# Altium footprint library Pin, SPND-001T-C0.5.PcbLib: 1 footprints
Each footprint in its own frame and in the unit in brackets; x right, y up, seen from the top. Pads: shape width x height; smd on the part's side, far side on the other; paste and mask are expansions set on the pad; w line width, h text height; cw(c..) or ccw(c..) is an arc to the next point about the centre after c.

## Pin, SPND-001T-C0.5 [mm] "Pin, SPND-001T-C0.5"
3D body "JST  - Pin - SPND-001T-C0.5.step": height 2.7, standoff 0, extent -1.1,-3.6 1.1,3.9